# Altium footprint library LABLIB.PcbLib: 244 footprints (part 7 of 17)
Each footprint in its own frame and in the unit in brackets; x right, y up, seen from the top. Pads: shape width x height; smd on the part's side, far side on the other; paste and mask are expansions set on the pad; w line width, h text height; cw(c..) or ccw(c..) is an arc to the next point about the centre after c.
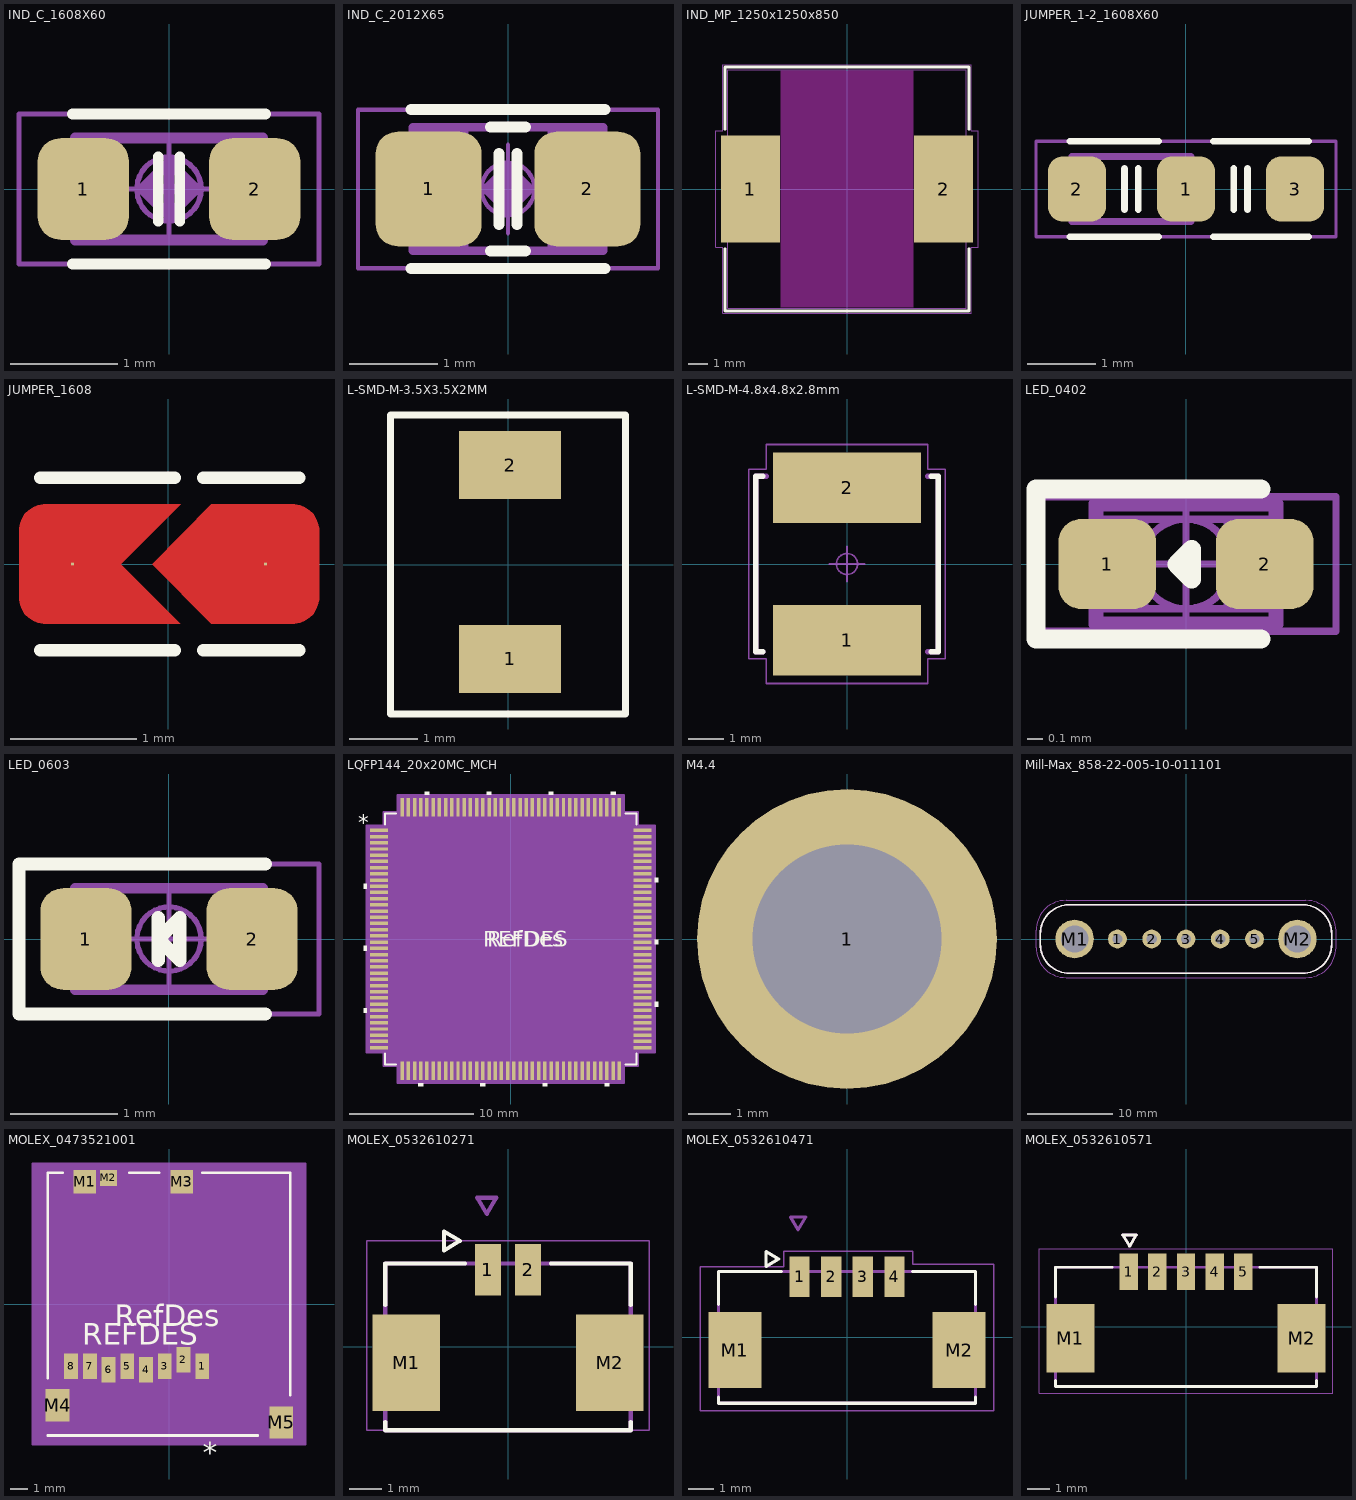
[diagram p6: the footprints below, top view; thin cyan lines are the x and y axes]

## IND_C_1608X60 [mm] "Chip Resistor, 2-Leads, Body 1.63x0.83mm, IPC High Density"
height 0.6
pads (2):
  rrect50% 0.85x0.95 smd: 1(-0.8,0) 2(0.8,0)
Top Overlay:
  lines w0.1: -0.9,-0.7 0.9,-0.7 ; -0.9,0.7 0.9,0.7 ; -0.1,-0.3 -0.1,0.3 ; 0.1,-0.3 0.1,0.3
Top Assembly:
  lines w0.1: -0.875,-0.475 0.875,-0.475 0.875,0.475 -0.875,0.475 -0.875,-0.475
  text "'.Designator'" at -4.217,-0.663 h1.6
Top Courtyard:
  lines w0.05: -1.4,-0.7 1.4,-0.7 1.4,0.7 -1.4,0.7 -1.4,-0.7
  lines w0.1: -0.25,0 0,-0.25 ; -0.25,0 0,0.25 ; -0.25,0 0.25,0 ; 0,-0.25 0.25,0 ; 0,-0.25 0,0.25 ; 0,0.25 0.25,0
Top Component Outline:
  rectangle: 0.475,-0.475 0.875,0.475
  rectangle: -0.875,-0.475 -0.475,0.475
  lines w0.05: -0.875,-0.475 -0.875,0.475 0.875,0.475 0.875,-0.475 -0.875,-0.475
Top Component Center:
  circle w0.05: c0,0 r0.3
  lines w0.05: -0.5,0 0.5,0 ; 0,-0.5 0,0.5
3D body "RESC1608X60.step": height 0.6, standoff 0, extent -0.875,-0.475 0.875,0.475

## IND_C_2012X65 [mm] "Chip Inductor, 2-Leads, Body 2.00x1.25mm, IPC High Density"
height 0.65
pads (2):
  rrect41% 1.2x1.3 smd: 1(-0.9,0) 2(0.9,0)
Top Overlay:
  lines w0.125: -1.1,-0.9 1.1,-0.9 ; -1.1,0.9 1.1,0.9 ; -0.2,-0.7 0.2,-0.7 ; -0.2,0.7 0.2,0.7 ; -0.1,-0.4 -0.1,0.4 ; 0.1,-0.4 0.1,0.4
Top Assembly:
  lines w0.1: -1.075,-0.7 -1.075,0.7 1.075,0.7 1.075,-0.7 -1.075,-0.7
  text "'.Designator'" at -4.217,-0.663 h1.6
Top Courtyard:
  lines w0.05: -1.7,-0.9 -1.7,0.9 1.7,0.9 1.7,-0.9 -1.7,-0.9
  lines w0.1: -0.25,0 0,-0.25 ; -0.25,0 0,0.25 ; -0.25,0 0.25,0 ; 0,-0.25 0.25,0 ; 0,-0.25 0,0.25 ; 0,0.25 0.25,0
Top Component Outline:
  region: 1.1,0.7 0.45,0.7 0.45,-0.7 1.1,-0.7
  rectangle: -1.1,-0.7 -0.45,0.7
  lines w0.05: -1.1,-0.7 1.1,-0.7 1.1,0.7 -1.1,0.7 -1.1,-0.7
Top Component Center:
  circle w0.05: c0,0 r0.3
  lines w0.05: -0.5,0 0.5,0 ; 0,-0.5 0,0.5
3D body "RESC2012X65.step": height 0.65, standoff 0, extent -1.075,-0.7 1.075,0.7

## IND_MP_1250x1250x850 [mil]
pads (2):
  rect 122x220 smd paste+0 mask+0: 1(-199,0) 2(199,0)
Top Layer keep-out:
  region: -136,-244 -136,244 136,244 136,-244
Top Overlay:
  lines w6: -251,-123.1 -251,-251 251,-251 251,-123.1 ; -251,123.1 -251,251 251,251 251,123.1
Top Courtyard:
  lines w1.97: -270,-120 -256,-120 -256,-256 256,-256 256,-120 270,-120 270,120 256,120 256,256 -256,256 -256,120 -270,120 -270,-120
Mechanical 13:
  lines w1: -246,-246 246,-246 246,246 -246,246 -246,-246
3D body "b82477_p4.step": height 305.12, standoff -3.94, extent -236.22,-236.22 236.22,236.22

## JUMPER_1-2_1608X60 [mm] "Chip Resistor, 2-Leads, Body 1.63x0.83mm, IPC High Density"
height 0.6
pads (3):
  rrect50% 0.85x0.95 smd: 1(0,0) 2(-1.6,0) 3(1.6,0)
Top Overlay:
  lines w0.1: -1.7,-0.7 -0.4,-0.7 ; -1.7,0.7 -0.4,0.7 ; -0.9,-0.3 -0.9,0.3 ; -0.7,-0.3 -0.7,0.3 ; 0.4,-0.7 1.8,-0.7 ; 0.4,0.7 1.8,0.7 ; 0.7,-0.3 0.7,0.3 ; 0.9,-0.3 0.9,0.3
Top Assembly:
  lines w0.1: -1.675,-0.475 -1.675,0.475 0.075,0.475 0.075,-0.475 -1.675,-0.475
  text "'.Designator'" at -4.217,-0.666 h1.6
Top Courtyard:
  lines w0.05: -2.2,-0.7 2.2,-0.7 2.2,0.7 -2.2,0.7 -2.2,-0.7
Top Component Outline:
  rectangle: -1.675,-0.475 -1.275,0.475
  rectangle: -0.325,-0.475 0.075,0.475
  lines w0.05: -1.675,-0.475 0.075,-0.475 0.075,0.475 -1.675,0.475 -1.675,-0.475
3D body "RESC1608X60.step": height 0.6, standoff 0, extent -1.675,-0.475 0.075,0.475

## JUMPER_1608 [mil]
pads (2):
  round 1 smd paste-99999: 1(30.51,0) 2(-30,0)
Top Layer:
  region: -14.86,-0.09 3.75,-18.7 -38.37,-18.7 -39.19,-18.7 -40.81,-18.38 -42.33,-17.75 -43.7,-16.83 -44.86,-15.67 -45.78,-14.3 -46.41,-12.77 -46.73,-11.16 -46.73,-10.33 -46.73,10.33 -46.73,11.16 -46.41,12.77 -45.78,14.3 -44.86,15.67 -43.7,16.83 -42.33,17.75 -40.81,18.38 -39.19,18.7 -38.37,18.7 3.93,18.7
  region: 38.88,-18.7 13.56,-18.7 -5,0 13.56,18.7 38.88,18.7 39.7,18.7 41.32,18.38 42.84,17.75 44.21,16.83 45.38,15.67 46.29,14.3 46.92,12.77 47.24,11.16 47.24,10.33 47.24,-10.33 47.24,-11.16 46.92,-12.77 46.29,-14.3 45.38,-15.67 44.21,-16.83 42.84,-17.75 41.32,-18.38 39.7,-18.7
Top Overlay:
  lines w3.94: -40,-27 2,-27 ; -40,27 2,27 ; 11,-27 41,-27 ; 11,27 41,27

## L-SMD-M-3.5X3.5X2MM [mm]
pads (2):
  rect 1.5x1 smd: 1(0.032,-1.385) 2(0.032,1.461)
Top Overlay:
  lines w0.1: -1.727,-2.195 1.727,-2.195 1.727,2.195 -1.727,2.195 -1.727,-2.195
3D body "SRP3020TA.stp": height 1.84, standoff 0.03, extent -1.58,-1.731 1.62,1.765

## L-SMD-M-4.8x4.8x2.8mm [mm]
pads (2):
  rect 4.2x2 smd: 1(0,-2.17) 2(0,2.17)
Top Overlay:
  lines w0.15: -2.4,-2.5 -2.6,-2.5 -2.6,2.5 -2.4,2.5 ; 2.4,-2.5 2.6,-2.5 2.6,2.5 2.4,2.5
Top Assembly:
  lines w0.15: -2.4,-2.5 -2.6,-2.5 -2.6,2.5 -2.3,2.5 ; 2.3,-2.5 2.6,-2.5 2.6,2.5 2.3,2.5
  text "'.Designator'" at -3.952,-0.622 h1.5
Top Courtyard:
  lines w0.05: -2.8,-2.7 -2.3,-2.7 -2.3,-3.4 2.3,-3.4 2.3,-2.7 2.8,-2.7 2.8,2.7 2.3,2.7 2.3,3.4 -2.3,3.4 -2.3,2.7 -2.8,2.7 -2.8,-2.7
Top Component Center:
  circle w0.05: c0,0 r0.3
  lines w0.05: -0.5,0 0.5,0 ; 0,-0.5 0,0.5
3D body "SRR4828A.stp": height 2.76, standoff 0, extent -2.41,-2.4 2.41,2.4

## LED_0402 [mm]
pads (2):
  rrect50% 0.65x0.6 smd mask+0.05: 1(-0.525,0) 2(0.525,0)
Top Overlay:
  lines w0.125: 0.5,-0.5 -1,-0.5 -1,0.5 0.5,0.5 ; -0.061,-0.001 0.039,0.099 0.039,-0.101 -0.061,-0.001
Top Assembly:
  lines w0.1: -0.6,-0.4 -0.6,0.4 0.6,0.4 0.6,-0.4 -0.6,-0.4
Top Courtyard:
  lines w0.05: -1,-0.45 -0.575,-0.45 1,-0.45 1,0.45 -1,0.45 -1,-0.45
Top Component Outline:
  rectangle: 0.25,-0.3 0.55,0.3
  rectangle: -0.55,-0.3 -0.25,0.3
  lines w0.05: -0.55,-0.3 -0.55,0.3 0.55,0.3 0.55,-0.3 -0.55,-0.3
Top Component Center:
  circle w0.05: c0,0 r0.3
  lines w0.05: -0.5,0 0.5,0 ; 0,-0.5 0,0.5
3D body "User Library-LED-0402.STEP": height 0.45, standoff 0, extent -0.505,-0.25 0.505,0.25

## LED_0603 [mm]
pads (2):
  rrect50% 0.85x0.95 smd: 1(-0.775,0) 2(0.775,0)
Top Overlay:
  lines w0.125: -0.1,-0.2 -0.1,0.2 ; 0.9,-0.7 -1.4,-0.7 -1.4,0.7 0.9,0.7 ; -0.1,0 0.1,0.2 0.1,-0.2 -0.1,0
Top Assembly:
  lines w0.1: -0.875,-0.475 -0.875,0.475 0.875,0.475 0.875,-0.475 -0.875,-0.475
  text "'.Designator'" at -4.217,-0.663 h1.6
Top Courtyard:
  lines w0.05: -1.4,-0.7 -1.4,0.7 1.4,0.7 1.4,-0.7 -1.4,-0.7
Top Component Outline:
  rectangle: 0.475,-0.475 0.875,0.475
  rectangle: -0.875,-0.475 -0.475,0.475
  lines w0.05: -0.875,-0.475 0.875,-0.475 0.875,0.475 -0.875,0.475 -0.875,-0.475
Top Component Center:
  circle w0.05: c0,0 r0.3
  lines w0.05: -0.5,0 0.5,0 ; 0,-0.5 0,0.5
3D body "150060xxx.stp": height 0.7, standoff 0, extent -0.8,-0.4 0.8,0.4

## LQFP144_20x20MC_MCH [mil]
pads (144):
  rect 58x11 smd paste+0 mask+0: 1(-418,344.49) 2(-418,324.8) 3(-418,305.12) 4(-418,285.43) 5(-418,265.75) 6(-418,246.06) 7(-418,226.38) 8(-418,206.69) 9(-418,187.01) 10(-418,167.32) 11(-418,147.64) 12(-418,127.95) 13(-418,108.27) 14(-418,88.58) 15(-418,68.9) 16(-418,49.21) 17(-418,29.53) 18(-418,9.84) 19(-418,-9.84) 20(-418,-29.53) 21(-418,-49.21) 22(-418,-68.9) 23(-418,-88.58) 24(-418,-108.27) 25(-418,-127.95) 26(-418,-147.64) 27(-418,-167.32) 28(-418,-187.01) 29(-418,-206.69) 30(-418,-226.38) 31(-418,-246.06) 32(-418,-265.75) 33(-418,-285.43) 34(-418,-305.12) 35(-418,-324.8) 36(-418,-344.49) 73(418,-344.49) 74(418,-324.8) 75(418,-305.12) 76(418,-285.43) 77(418,-265.75) 78(418,-246.06) 79(418,-226.38) 80(418,-206.69) 81(418,-187.01) 82(418,-167.32) 83(418,-147.64) 84(418,-127.95) 85(418,-108.27) 86(418,-88.58) 87(418,-68.9) 88(418,-49.21) 89(418,-29.53) 90(418,-9.84) 91(418,9.84) 92(418,29.53) 93(418,49.21) 94(418,68.9) 95(418,88.58) 96(418,108.27) 97(418,127.95) 98(418,147.64) 99(418,167.32) 100(418,187.01) 101(418,206.69) 102(418,226.38) 103(418,246.06) 104(418,265.75) 105(418,285.43) 106(418,305.12) 107(418,324.8) 108(418,344.49)
  rect 11x58 smd paste+0 mask+0: 37(-344.49,-418) 38(-324.8,-418) 39(-305.12,-418) 40(-285.43,-418) 41(-265.75,-418) 42(-246.06,-418) 43(-226.38,-418) 44(-206.69,-418) 45(-187.01,-418) 46(-167.32,-418) 47(-147.64,-418) 48(-127.95,-418) 49(-108.27,-418) 50(-88.58,-418) 51(-68.9,-418) 52(-49.21,-418) 53(-29.53,-418) 54(-9.84,-418) 55(9.84,-418) 56(29.53,-418) 57(49.21,-418) 58(68.9,-418) 59(88.58,-418) 60(108.27,-418) 61(127.95,-418) 62(147.64,-418) 63(167.32,-418) 64(187.01,-418) 65(206.69,-418) 66(226.38,-418) 67(246.06,-418) 68(265.75,-418) 69(285.43,-418) 70(305.12,-418) 71(324.8,-418) 72(344.49,-418) 109(344.49,418) 110(324.8,418) 111(305.12,418) 112(285.43,418) 113(265.75,418) 114(246.06,418) 115(226.38,418) 116(206.69,418) 117(187.01,418) 118(167.32,418) 119(147.64,418) 120(127.95,418) 121(108.27,418) 122(88.58,418) 123(68.9,418) 124(49.21,418) 125(29.53,418) 126(9.84,418) 127(-9.84,418) 128(-29.53,418) 129(-49.21,418) 130(-68.9,418) 131(-88.58,418) 132(-108.27,418) 133(-127.95,418) 134(-147.64,418) 135(-167.32,418) 136(-187.01,418) 137(-206.69,418) 138(-226.38,418) 139(-246.06,418) 140(-265.75,418) 141(-285.43,418) 142(-305.12,418) 143(-324.8,418) 144(-344.49,418)
Top Overlay:
  region: -457,174.82 -467,174.82 -467,159.82 -457,159.82
  region: -457,-22.03 -467,-22.03 -467,-37.03 -457,-37.03
  region: -457,-218.88 -467,-218.88 -467,-233.88 -457,-233.88
  region: -277.93,-457 -292.93,-457 -292.93,-467 -277.93,-467
  region: -81.08,-457 -96.08,-457 -96.08,-467 -81.08,-467
  region: 115.77,-457 100.77,-457 100.77,-467 115.77,-467
  region: 312.62,-457 297.62,-457 297.62,-467 312.62,-467
  region: 457,-199.19 467,-199.19 467,-214.19 457,-214.19
  region: 457,-2.34 467,-2.34 467,-17.34 457,-17.34
  region: 457,194.51 467,194.51 467,179.51 457,179.51
  region: 332.3,457 317.3,457 317.3,467 332.3,467
  region: 135.45,457 120.45,457 120.45,467 135.45,467
  region: -61.4,457 -76.4,457 -76.4,467 -61.4,467
  region: -258.25,457 -273.25,457 -273.25,467 -258.25,467
  lines w6: -398.5,-363.09 -398.5,-398.5 -363.09,-398.5 ; -398.5,363.09 -398.5,398.5 -363.09,398.5 ; 363.09,-398.5 398.5,-398.5 398.5,-363.09 ; 363.09,398.5 398.5,398.5 398.5,363.09
  text "*" at -484.5,344.33 h50
  text "RefDes" at -75,-25 h50
  text "REFDES" at -87.5,-25 h50
Mechanical 13:
  drawing of 581 lines, arcs and shapes, not listed
  text "*" at -391,329.33 h50
  text "RefDes2" at -87.5,-25 h50
Mechanical 15:
  region: -359.99,-403.5 -403.5,-403.5 -403.5,-359.99 -457,-359.99 -457,359.99 -403.5,359.99 -403.5,403.5 -359.99,403.5 -359.99,457 359.99,457 359.99,403.5 403.5,403.5 403.5,359.99 457,359.99 457,-359.99 403.5,-359.99 403.5,-403.5 359.99,-403.5 359.99,-457 -359.99,-457
  lines w6: -457,-359.99 -403.5,-359.99 -403.5,-403.5 -359.99,-403.5 -359.99,-457 359.99,-457 359.99,-403.5 403.5,-403.5 403.5,-359.99 457,-359.99 457,359.99 403.5,359.99 403.5,403.5 359.99,403.5 359.99,457 -359.99,457 -359.99,403.5 -403.5,403.5 -403.5,359.99 -457,359.99 -457,-359.99
3D body "LQFP144_20x20MC_MCH.step": height 63.11, standoff 0, extent -432.99,-432.99 432.99,432.99

## M4.4 [mm]
pads (1):
  round 7 hole 4.4 paste-2539.97: 1(0,0)
3D body "Model.stp": height 6.4, standoff -1, extent -2.997,-3 2.997,2.988

## Mill-Max_858-22-005-10-011101 [mm] "CONN SPRING PISTON 5POS PCB"
pads (7):
  round 2.2 hole 1.2: 1(-8,0) 2(-4,0) 3(0,0) 4(4,0) 5(8,0)
  round 4.5 hole 3.2: M1(-13,0) M2(13,0)
Top Overlay:
  lines w0.2: -14,4 14,4 ; -13.586,4 ccw(c-13.586,0.586) -17,0.586 -17,0 -17,-0.586 ccw(c-13.586,-0.586) -13.586,-4 13.586,-4 ccw(c13.586,-0.586) 17,-0.586 17,0.586 ccw(c13.586,0.586) 13.586,4 13,4
Top Assembly:
  lines w0.2: -14,4 14,4 ; -13.586,4 ccw(c-13.586,0.586) -17,0.586 -17,0 -17,-0.586 ccw(c-13.586,-0.586) -13.586,-4 13.586,-4 ccw(c13.586,-0.586) 17,-0.586 17,0.586 ccw(c13.586,0.586) 13.586,4 13,4
Top Courtyard:
  lines w0.05: -17.5,-1 ccw(c-14,-1) -14,-4.5 14,-4.5 ccw(c14,-1) 17.5,-1 17.5,1 ccw(c14,1) 14,4.5 -14,4.5 ccw(c-14,1) -17.5,1 -17.5,-1
Top Component Outline:
  lines w0.2: -14,4 14,4 ; -13.586,4 ccw(c-13.586,0.586) -17,0.586 -17,0 -17,-0.586 ccw(c-13.586,-0.586) -13.586,-4 13.586,-4 ccw(c13.586,-0.586) 17,-0.586 17,0.586 ccw(c13.586,0.586) 13.586,4 13,4
3D body "858-22-005-10-011101.STEP": height 9.6, standoff -3.17, extent -17,-4 17,4

## MOLEX_0473521001 [mil]
pads (13):
  rect 32x59 smd paste-29.5 mask-29.5: 1(76.73,-144.29) 2(33.43,-128.54) 3(-9.88,-144.29) 4(-53.19,-152.17) 5(-96.5,-144.29) 6(-139.8,-152.17) 7(-183.11,-144.29) 8(-226.42,-144.29)
  rect 51x55 smd paste+0 mask+0: M1(-194.88,283.18) M3(29.52,283.18)
  rect 39x37 smd paste+0 mask+0: M2(-140.24,292.18)
  rect 55x75 smd paste-37.5 mask-37.5: M4(-257.83,-234.56) M5(259.89,-273.93)
Top Overlay:
  lines w6: -280.5,-304 205.1,-304 ; -280.5,-172 -280.5,304 -245.33,304 ; -91.33,304 -22.83,304 ; 77.17,304 280.5,304 280.5,-211
  text "RefDes" at -125.98,-51.18 h50
  text "*" at 77.5,-370 h50
  text "REFDES" at -200.79,-94.49 h50
Mechanical 13:
  lines w1: -275.5,-299 275.5,-299 275.5,299 -275.5,299 -275.5,-299
  text "*" at 117.5,-180 h50
  text "RefDes2" at -87.5,-25 h50
Mechanical 15:
  region: -315.5,324 -315.5,-324 315.5,-324 315.5,324
  lines w6: -315.5,-324 315.5,-324 315.5,324 -315.5,324 -315.5,-324
3D body "473521001.stp": height 76.77, standoff 2.76, extent -279.53,-299.21 275.59,299.21

## MOLEX_0532610271 [mm]
height 3.4
pads (4):
  rect 0.8x1.6 smd mask+0.076: 1(-0.625,2.4) 2(0.625,2.4)
  rect 2.1x3 smd mask+0.076: M1(-3.175,-0.5) M2(3.175,-0.5)
Top Overlay:
  lines w0.127: -3.825,-2.35 -3.825,-2.6 3.825,-2.6 3.825,-2.35 ; -3.825,1.3 -3.825,2.6 -1.345,2.6 ; 1.345,2.6 3.825,2.6 3.825,1.3 ; -2,3 -1.5,3.3 -2,3.6 -2,3
Mechanical 13:
  lines w0.127: -3.825,-2.6 -3.825,2.6 3.825,2.6 3.825,-2.6 -3.825,-2.6 ; -0.96,4.645 -0.66,4.145 -0.36,4.645 -0.96,4.645
Mechanical 15:
  lines w0.05: -4.4,-2.6 -4.4,3.3 4.4,3.3 4.4,-2.6 -4.4,-2.6
3D body "532610271.STEP": height 3.4, standoff 0, extent -3.825,-2.6 3.825,2.6

## MOLEX_0532610471 [mm]
height 3.4
pads (6):
  rect 0.8x1.6 smd mask+0.076: 1(-1.875,2.4) 2(-0.625,2.4) 3(0.625,2.4) 4(1.875,2.4)
  rect 2.1x3 smd mask+0.076: M1(-4.425,-0.5) M2(4.425,-0.5)
Top Overlay:
  lines w0.127: -5.075,-2.35 -5.075,-2.6 5.075,-2.6 5.075,-2.35 ; -5.075,1.3 -5.075,2.6 -2.595,2.6 ; 2.595,2.6 5.075,2.6 5.075,1.3 ; -3.2,2.8 -3.2,3.4 -2.7,3.1 -3.2,2.8
Top Courtyard:
  lines w0.05: -5.8,-2.9 5.8,-2.9 5.8,-1.4 5.8,1.2 5.8,2.9 2.6,2.9 2.6,3.4 -2.5,3.4 -2.5,2.8 -5.8,2.8 -5.8,-1.7 -5.8,-2.9
Mechanical 13:
  lines w0.127: -5.075,-2.6 5.075,-2.6 5.075,2.6 -5.075,2.6 -5.075,-2.6 ; -2.23,4.752 -1.63,4.752 -1.93,4.252 -2.23,4.752
3D body "532610471.STEP": height 3.4, standoff -0.05, extent -5.075,-2.6 5.075,2.6

## MOLEX_0532610571 [mm]
height 3.4
pads (7):
  rect 0.8x1.6 smd mask+0.076: 1(-2.5,2.4) 2(-1.25,2.4) 3(0,2.4) 4(1.25,2.4) 5(2.5,2.4)
  rect 2.1x3 smd mask+0.076: M1(-5.05,-0.5) M2(5.05,-0.5)
Top Overlay:
  lines w0.127: -5.7,-2.35 -5.7,-2.6 5.7,-2.6 5.7,-2.35 ; -5.7,1.3 -5.7,2.6 -3.22,2.6 ; 3.22,2.6 5.7,2.6 5.7,1.3 ; -2.765,4.015 -2.465,3.515 -2.165,4.015 -2.765,4.015
Mechanical 13:
  lines w0.127: -5.7,-2.6 -5.7,2.6 5.7,2.6 5.7,-2.6 -5.7,-2.6 ; -2.765,4.015 -2.465,3.515 -2.165,4.015 -2.765,4.015
Mechanical 15:
  lines w0.05: -6.4,-2.9 -6.4,3.4 6.4,3.4 6.4,-2.9 -6.4,-2.9
3D body "532610571.stp": height 3.2, standoff -0.2, extent -5.7,-2.6 5.7,2.6